# Altium footprint library CR-2mm-11mm.PcbLib: 1 footprints
Each footprint in its own frame and in the unit in brackets; x right, y up, seen from the top. Pads: shape width x height; smd on the part's side, far side on the other; paste and mask are expansions set on the pad; w line width, h text height; cw(c..) or ccw(c..) is an arc to the next point about the centre after c.
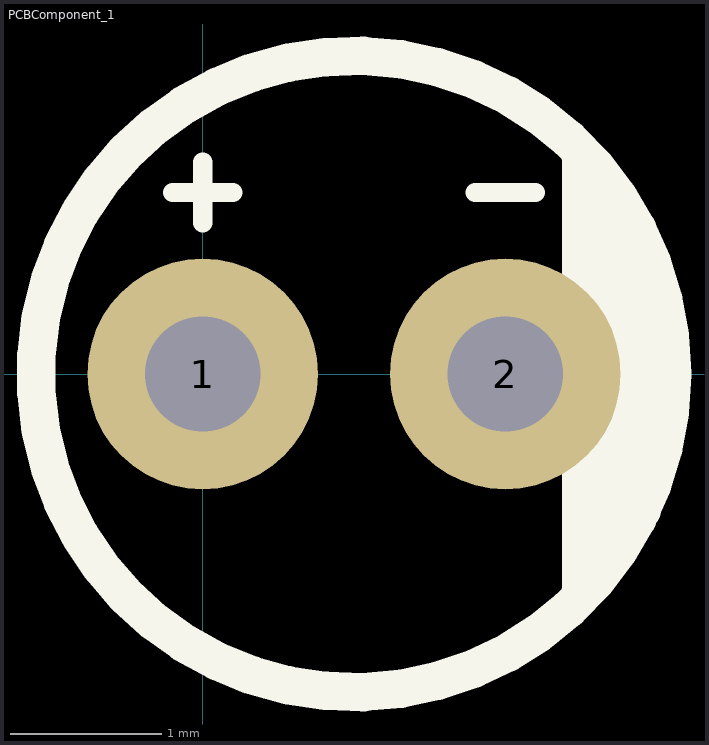
[diagram p0: the footprint, top view; thin cyan lines are the x and y axes]

## PCBComponent_1 [mil]
pads (2):
  round 60 hole 30: 1(0,0) 2(78.74,0)
Top Overlay:
  circle w10: c39.37,0 r82.77
  lines w5: -7.87,47.24 7.87,47.24 ; 0,39.37 0,55.12 ; 70.87,47.24 74.8,47.24 82.68,47.24 86.61,47.24
  lines w10: 98.43,-55.12 98.43,55.12 ; 106.3,-43.31 106.3,43.31 ; 114.17,-35.43 114.17,31.5